# Altium footprint library HSOP.PcbLib: 1 footprints
Each footprint in its own frame and in the unit in brackets; x right, y up, seen from the top. Pads: shape width x height; smd on the part's side, far side on the other; paste and mask are expansions set on the pad; w line width, h text height; cw(c..) or ccw(c..) is an arc to the next point about the centre after c.
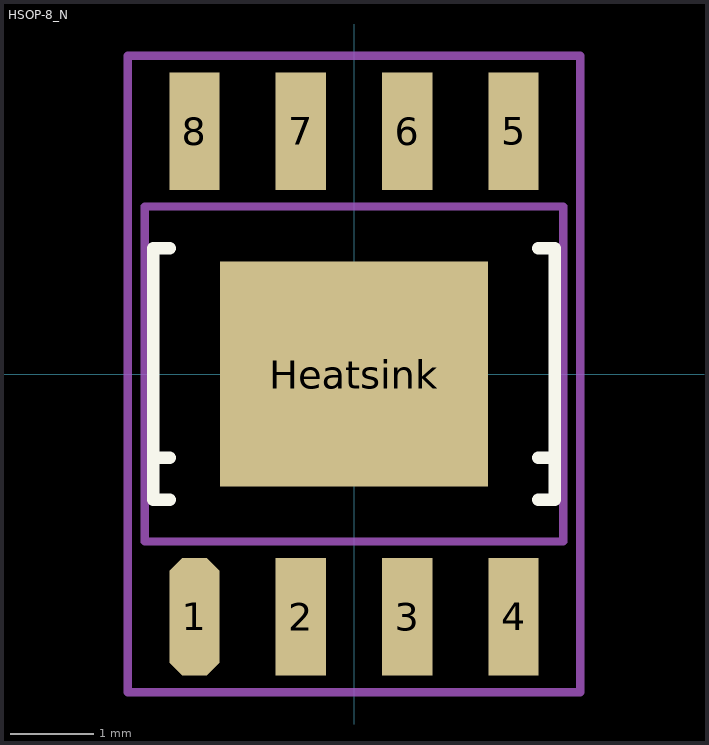
[diagram p0: the footprint, top view; thin cyan lines are the x and y axes]

## HSOP-8_N [mm] "HSOP, 8-Leads, Body 4x5x1.7mm, Pitch 1.27mm, Lead Span 6.2mm, IPC Medium Density"
height 1.7
pads (9):
  oct 0.6x1.4 smd: 1(-1.905,-2.9)
  rect 0.6x1.4 smd: 2(-0.635,-2.9) 3(0.635,-2.9) 4(1.905,-2.9) 5(1.905,2.9) 6(0.635,2.9) 7(-0.635,2.9) 8(-1.905,2.9)
  rect 3.2x2.69 smd: Heatsink(0,0)
Top Overlay:
  lines w0.15: -2.4,-1 -2.2,-1 ; -2.2,-1.5 -2.4,-1.5 -2.4,1.5 -2.2,1.5 ; 2.2,-1.5 2.4,-1.5 2.4,1.5 2.2,1.5 ; 2.2,-1 2.4,-1
Mechanical 13:
  lines w0.1: -2.5,-2 -2.5,2 2.5,2 2.5,-2 -2.5,-2
Mechanical 15:
  lines w0.1: -1,0 1,0 ; 0,-1 0,1 ; -2.7,-3.8 -2.7,3.8 2.7,3.8 2.7,-3.8 -2.7,-3.8
3D body: height 1.7, standoff 0.15, extent -2.5,-2 2.5,2